# EAGLE library part 68714414022 (library Eagle_FPC_CONNECTOR_AND_FFC_CAB (rev18c))
WR-FPC 0.5mm SMT ZIF Horizontal Top Contact, 44 Pins=>Code : Con_FPC_ZIF_0.50_68714414022 <http://katalog.we-online.de/media/images/eican/Con_FPC_ZIF_0.50_6871xx14022_pf2.jpg> Details see: http://katalog.we-online.de/en/em/687_1xx_140_22 Created 2014-07-09, Karrer Zheng 2014 (C) Würth Elektronik
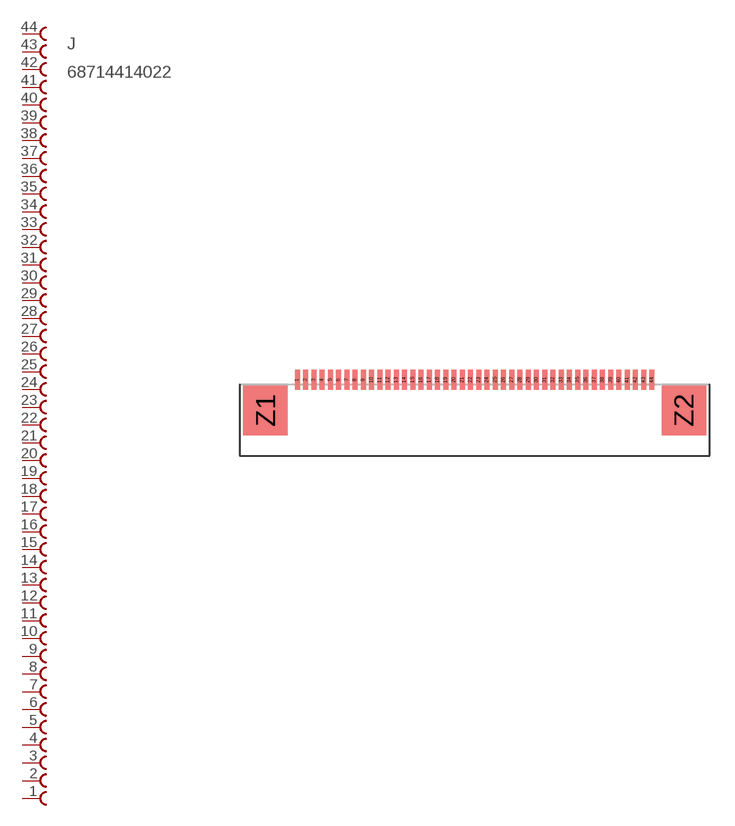
[diagram p35: symbol with the pads of 68714414022; footprint 68714414022]

Designator prefix J

## 68714414022  [68714414022]
1  44  pas
2  43  pas
3  42  pas
4  41  pas
5  40  pas
6  39  pas
7  38  pas
8  37  pas
9  36  pas
10  35  pas
11  34  pas
12  33  pas
13  32  pas
14  31  pas
15  30  pas
16  29  pas
17  28  pas
18  27  pas
19  26  pas
20  25  pas
21  24  pas
22  23  pas
23  22  pas
24  21  pas
25  20  pas
26  19  pas
27  18  pas
28  17  pas
29  16  pas
30  15  pas
31  14  pas
32  13  pas
33  12  pas
34  11  pas
35  10  pas
36  9  pas
37  8  pas
38  7  pas
39  6  pas
40  5  pas
41  4  pas
42  3  pas
43  2  pas
44  1  pas

## Footprint 68714414022 (pad centres in mm)
WR-FPC 0.5mm SMT ZIF Horizontal Top Contact, 44 Pins
smd 0.3 x 1.2: 1 -10.75,1.86; 2 -10.25,1.86; 3 -9.75,1.86; 4 -9.25,1.86; 5 -8.75,1.86; 6 -8.25,1.86; 7 -7.75,1.86; 8 -7.25,1.86; 9 -6.75,1.86; 10 -6.25,1.86; 11 -5.75,1.86; 12 -5.25,1.86; 13 -4.75,1.86; 14 -4.25,1.86; 15 -3.75,1.86; 16 -3.25,1.86; 17 -2.75,1.86; 18 -2.25,1.86; 19 -1.75,1.86; 20 -1.25,1.86; 21 -0.75,1.86; 22 -0.25,1.86; 23 0.25,1.86; 24 0.75,1.86; 25 1.25,1.86; 26 1.75,1.86; 27 2.25,1.86; 28 2.75,1.86; 29 3.25,1.86; 30 3.75,1.86; 31 4.25,1.86; 32 4.75,1.86; 33 5.25,1.86; 34 5.75,1.86; 35 6.25,1.86; 36 6.75,1.86; 37 7.25,1.86; 38 7.75,1.86; 39 8.25,1.86; 40 8.75,1.86; 41 9.25,1.86; 42 9.75,1.86; 43 10.25,1.86; 44 10.75,1.86
smd 2.7 x 3: Z1 -12.68,0; Z2 12.68,0